# Altium footprint library PCB - POWER INDUCTORS - BOURNS SRP5030T.PCBLIB: 1 footprints
Each footprint in its own frame and in the unit in brackets; x right, y up, seen from the top. Pads: shape width x height; smd on the part's side, far side on the other; paste and mask are expansions set on the pad; w line width, h text height; cw(c..) or ccw(c..) is an arc to the next point about the centre after c.
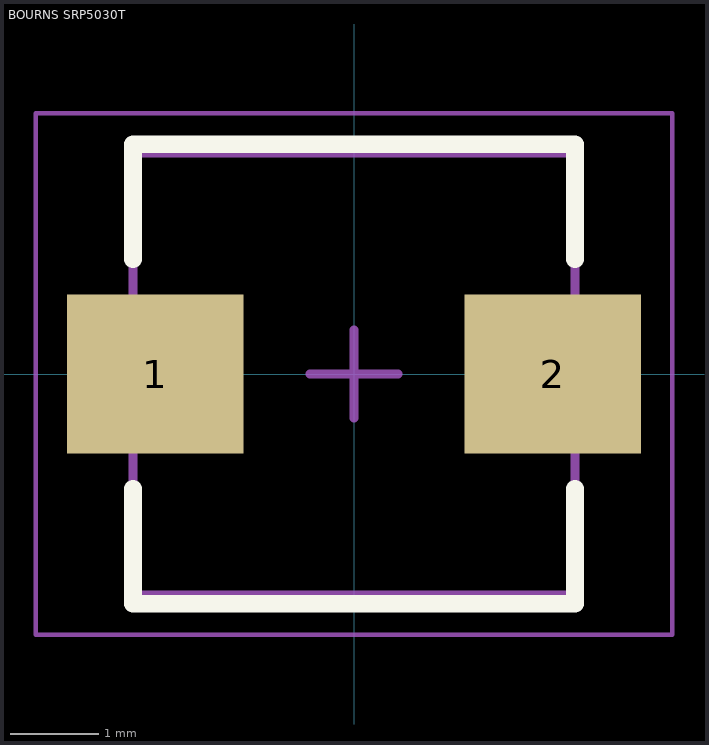
[diagram p0: the footprint, top view; thin cyan lines are the x and y axes]

## BOURNS SRP5030T [mm] "Precision Wire Wound Inductor, 2-Leads, Body 5.70x5.20mm, IPC Medium Density"
height 3
pads (2):
  rect 2x1.8 smd: 1(-2.25,0) 2(2.25,0)
Top Overlay:
  lines w0.2: -2.5,-1.3 -2.5,-2.6 2.5,-2.6 2.5,-1.3 ; -2.5,1.3 -2.5,2.6 2.5,2.6 2.5,1.3
Mechanical 13:
  lines w0.1: -2.5,-2.5 2.5,-2.5 2.5,2.5 -2.5,2.5 -2.5,-2.5
Mechanical 15:
  lines w0.05: -3.6,-2.95 3.6,-2.95 3.6,2.95 -3.6,2.95 -3.6,-2.95
  lines w0.1: -0.5,0 0.5,0 ; 0,-0.5 0,0.5
3D body "Bourns SRP5030T.STEP": height 3, standoff 0, extent -2.85,-2.6 2.85,2.6